# EAGLE library part MICRF112 (library jonsowman)
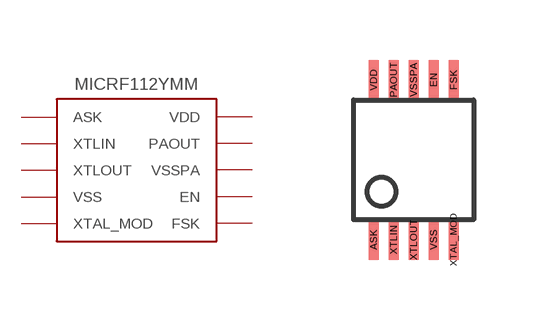
[diagram p0: symbol with the pads of MICRF112-MSOP10; footprint MICRF112-MSOP10]

Designator prefix -

## MICRF112  [MICRF112-MSOP10]
ASK  ASK
EN  EN
FSK  FSK
PAOUT  PAOUT
VDD  VDD
VSS  VSS
VSSPA  VSSPA
XTAL_MOD  XTAL_MOD
XTLIN  XTLIN
XTLOUT  XTLOUT

## Footprint MICRF112-MSOP10 (pad centres in mm)
smd 0.25 x 1: ASK -1,-2; EN 0.5,2; FSK 1,2; PAOUT -0.5,2; VDD -1,2; VSS 0.5,-2; VSSPA 0,2; XTAL_MOD 1,-2; XTLIN -0.5,-2; XTLOUT 0,-2